# Altium schematic symbol library BMS_Schematic_Library1.SchLib: 1 symbol
Pins are listed as number, name and electrical type; pins without a type are passive.

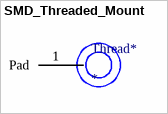
[diagram p0: symbol SMD_Threaded_Mount]

## SMD_Threaded_Mount
designator Thread*
pins: 1 Pad